# EAGLE library part IDT82V2081 (library idt82v2081)
Single Channel T1/T1/J1 Long Haul/Short Haul Line Interface Unit
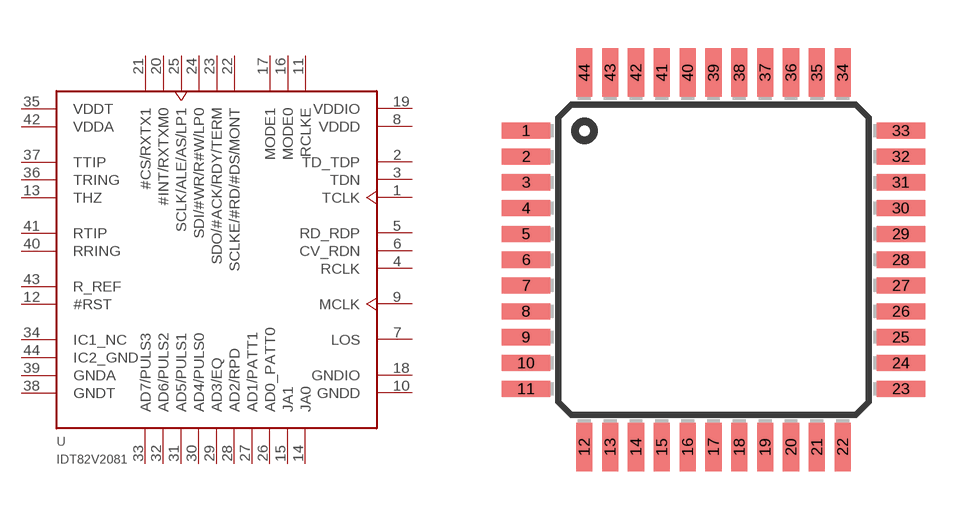
[diagram p0: symbol with the pads of TQFP44; footprint TQFP44]

Designator prefix U

## IDT82V2081  [TQFP44]
1  TCLK  in
2  TD_TDP  in
3  TDN  in
4  RCLK  out
5  RD_RDP  out
6  CV_RDN  out
7  LOS  out
8  VDDD  pwr
9  MCLK  in
10  GNDD  pwr
11  RCLKE  in
12  #RST  in
13  THZ  in
14  JA0  in
15  JA1  in
16  MODE0  in
17  MODE1  in
18  GNDIO  pwr
19  VDDIO  pwr
20  #INT/RXTXM0
21  #CS/RXTX1  in
22  SCLKE/#RD/#DS/MONT  in
23  SDO/#ACK/RDY/TERM
24  SDI/#WR/R#W/LP0  in
25  SCLK/ALE/AS/LP1  in
26  AD0_PATT0
27  AD1/PATT1
28  AD2/RPD
29  AD3/EQ
30  AD4/PULS0
31  AD5/PULS1
32  AD6/PULS2
33  AD7/PULS3
34  IC1_NC
35  VDDT  pwr
36  TRING  out
37  TTIP  out
38  GNDT  pwr
39  GNDA  pwr
40  RRING  in
41  RTIP  in
42  VDDA  pwr
43  R_REF
44  IC2_GND

## Footprint TQFP44 (pad centres in mm)
44-lead Thin Quad Flat Package
smd 1.5 x 0.5: 1 -5.8,4; 2 -5.8,3.2; 3 -5.8,2.4; 4 -5.8,1.6; 5 -5.8,0.8; 6 -5.8,0; 7 -5.8,-0.8; 8 -5.8,-1.6; 9 -5.8,-2.4; 10 -5.8,-3.2; 11 -5.8,-4; 23 5.8,-4; 24 5.8,-3.2; 25 5.8,-2.4; 26 5.8,-1.6; 27 5.8,-0.8; 28 5.8,0; 29 5.8,0.8; 30 5.8,1.6; 31 5.8,2.4; 32 5.8,3.2; 33 5.8,4
smd 0.5 x 1.5: 12 -4,-5.8; 13 -3.2,-5.8; 14 -2.4,-5.8; 15 -1.6,-5.8; 16 -0.8,-5.8; 17 0,-5.8; 18 0.8,-5.8; 19 1.6,-5.8; 20 2.4,-5.8; 21 3.2,-5.8; 22 4,-5.8; 34 4,5.8; 35 3.2,5.8; 36 2.4,5.8; 37 1.6,5.8; 38 0.8,5.8; 39 0,5.8; 40 -0.8,5.8; 41 -1.6,5.8; 42 -2.4,5.8; 43 -3.2,5.8; 44 -4,5.8